# Altium schematic symbol library DS1E-S-DC1.5V.SchLib: 1 symbol
Pins are listed as number, name and electrical type; pins without a type are passive.

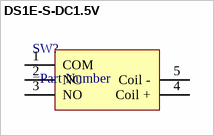
[diagram p0: symbol DS1E-S-DC1.5V]

## DS1E-S-DC1.5V
designator SW?
=Description
pins: 1 COM (power), 2 NC (power), 3 NO (power), 4 Coil + (power), 5 Coil - (power)